# EAGLE library part LTC3531ES6-3_3 (library LTC3531ES6-3_3)
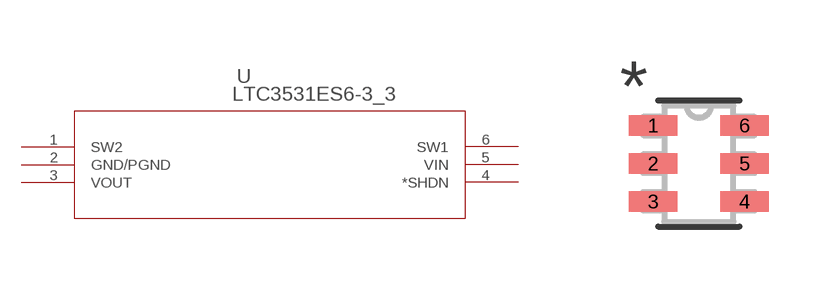
[diagram p0: symbol with the pads of TSOT-23_S6; footprint TSOT-23_S6]

Designator prefix U

## LTC3531ES6-3_3 (AVAILABILITY: Unavailable; DESCRIPTION: LTC3531 - 200mA Buck-Boost Synchronous DC/DC Converters; MF: Linear Technology; MP: LTC3531ES6-3.3; PACKAGE: None; PRICE: None)  [TSOT-23_S6]
1  SW2  pas
2  GND/PGND  pwr
3  VOUT  out
4  *SHDN  pas
5  VIN  in
6  SW1  pas

## Footprint TSOT-23_S6 (pad centres in mm)
smd 1.219 x 0.508: 1 -1.143,0.95; 2 -1.143,0; 3 -1.143,-0.95; 4 1.143,-0.95; 5 1.143,0; 6 1.143,0.95